# Altium schematic symbol library CH340.Schlib1.SchLib: 3 symbols
Pins are listed as number, name and electrical type; pins without a type are passive.

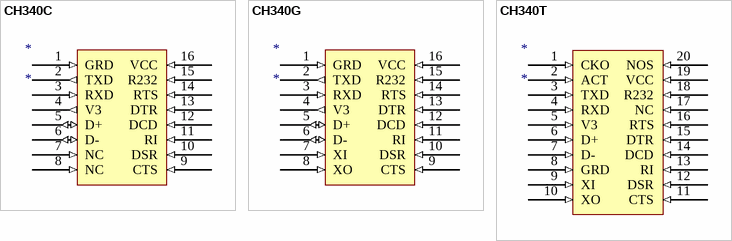
[diagram p0: symbols CH340C to CH340T]

## CH340C
designator *
pins: 1 GRD (in), 2 TXD (out), 3 RXD (in), 4 V3 (out), 5 D+ (io), 6 D- (io), 7 NC (in), 8 NC (in), 9 CTS (in), 10 DSR (in), 11 RI (in), 12 DCD (in), 13 DTR (in), 14 RTS (in), 15 R232 (in), 16 VCC (in)

## CH340G
designator *
pins: 1 GRD (in), 2 TXD (out), 3 RXD (in), 4 V3 (out), 5 D+ (io), 6 D- (io), 7 XI (in), 8 XO (in), 9 CTS (in), 10 DSR (in), 11 RI (in), 12 DCD (in), 13 DTR (in), 14 RTS (in), 15 R232 (in), 16 VCC (in)

## CH340T
designator *
pins: 1 CKO (in), 2 ACT (in), 3 TXD (in), 4 RXD (in), 5 V3 (in), 6 D+ (in), 7 D- (in), 8 GRD (in), 9 XI (in), 10 XO (in), 11 CTS (in), 12 DSR (in), 13 RI (in), 14 DCD (in), 15 DTR (in), 16 RTS (in), 17 NC (in), 18 R232 (in), 19 VCC (in), 20 NOS (in)